# Altium schematic symbol library NX3225GA_25MHZ_EXS00A-CG06750.SchLib: 1 symbol
Pins are listed as number, name and electrical type; pins without a type are passive.

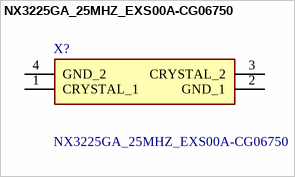
[diagram p0: symbol NX3225GA_25MHZ_EXS00A-CG06750]

## NX3225GA_25MHZ_EXS00A-CG06750
designator X?
CRYSTAL 25MHZ 8PF SMD; Manufacturer_Name: NDK; Manufacturer_Part_Number: NX3225GA 25MHZ EXS00A-CG06750; Geometry.Height: 0.9mm; Mouser Part Number: *; Mouser Price/Stock: *; Arrow Part Number: *; Arrow Price/Stock: *; Datasheet Link: https://www.ndk.com/images/products/catalog/c_NX3225GA-2_e.pdf
footprint NX3225GA25MHZEXS00ACG06750
pins: 1 CRYSTAL_1, 2 GND_1, 3 CRYSTAL_2, 4 GND_2